# Altium footprint library JCM3012S05.PcbLib: 1 footprints
Each footprint in its own frame and in the unit in brackets; x right, y up, seen from the top. Pads: shape width x height; smd on the part's side, far side on the other; paste and mask are expansions set on the pad; w line width, h text height; cw(c..) or ccw(c..) is an arc to the next point about the centre after c.
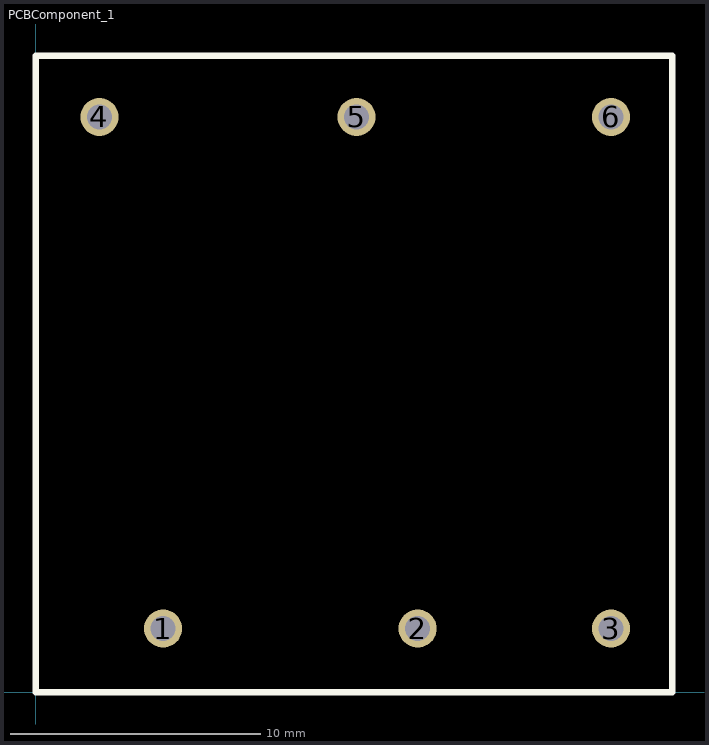
[diagram p0: the footprint, top view; thin cyan lines are the x and y axes]

## PCBComponent_1 [mil]
pads (6):
  round 60 hole 39.37: 1(200,100) 2(600,100) 3(903.94,100) 4(100,903.94) 5(503.94,903.94) 6(903.94,903.94)
Top Overlay:
  lines w10: 0,0 1000,0 1000,1000 0,1000 0,0